# EAGLE library part CS8416_SW (library cirrus)
DIGITAL AUDIO INTERFACE RECEIVER (Software Mode) 192 kHz, AES3, S/PDIF-compatible Receiver
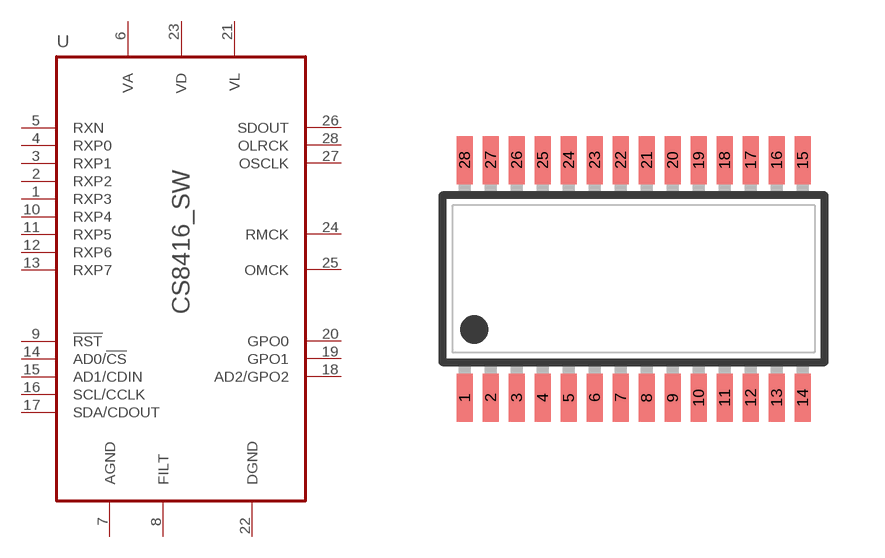
[diagram p12: symbol with the pads of TSSOP28L; footprint TSSOP28L]

Designator prefix U

## CS8416_SW  [TSSOP28L]
1  RXP3  in
2  RXP2  in
3  RXP1  in
4  RXP0  in
5  RXN  in
6  VA  pwr
7  AGND  pwr
8  FILT  out
9  !RST!  in
10  RXP4  in
11  RXP5  in
12  RXP6  in
13  RXP7  in
14  AD0/!CS!  in
15  AD1/CDIN  in
16  SCL/CCLK  in
17  SDA/CDOUT
18  AD2/GPO2  out
19  GPO1  out
20  GPO0  out
21  VL  pwr
22  DGND  pwr
23  VD  pwr
24  RMCK  out
25  OMCK  in
26  SDOUT  out
27  OSCLK
28  OLRCK

## Footprint TSSOP28L (pad centres in mm)
Small Shrink Outline Package JEDEC MO-153
smd 0.4 x 1.2: 1 -3.575,-2.97; 2 -2.925,-2.97; 3 -2.275,-2.97; 4 -1.625,-2.97; 5 -0.975,-2.97; 6 -0.325,-2.97; 7 0.325,-2.97; 8 0.975,-2.97; 9 1.625,-2.97; 10 2.275,-2.97; 11 2.925,-2.97; 12 3.575,-2.97; 13 4.225,-2.97; 14 4.875,-2.97; 15 4.875,2.97; 16 4.225,2.97; 17 3.575,2.97; 18 2.925,2.97; 19 2.275,2.97; 20 1.625,2.97; 21 0.975,2.97; 22 0.325,2.97; 23 -0.325,2.97; 24 -0.975,2.97; 25 -1.625,2.97; 26 -2.275,2.97; 27 -2.925,2.97; 28 -3.575,2.97